# EAGLE library part AD8251 (library analog-devices)
Instrumentation Amplifier Programmable Gain
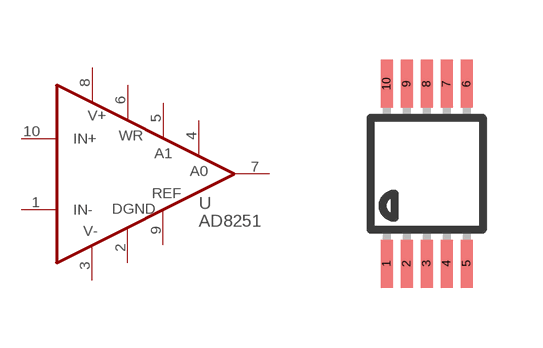
[diagram p32: symbol with the pads of MSOP10; footprint MSOP10]

Designator prefix U

## AD8251  [MSOP10]
1  IN-  in
2  DGND  pas
3  V-  pwr
4  A0  out
5  A1  out
6  WR  out
7  OUT  out
8  V+  pwr
9  VREF  pas
10  IN+  in

## Footprint MSOP10 (pad centres in mm)
MSOP-10
smd 0.3 x 1.2: 1 -1,-2.25; 2 -0.5,-2.25; 3 0,-2.25; 4 0.5,-2.25; 5 1,-2.25; 6 1,2.25; 7 0.5,2.25; 8 0,2.25; 9 -0.5,2.25; 10 -1,2.25